# Altium footprint library Connector_Wire.PcbLib: 290 footprints (part 8 of 19)
Each footprint in its own frame and in the unit in brackets; x right, y up, seen from the top. Pads: shape width x height; smd on the part's side, far side on the other; paste and mask are expansions set on the pad; w line width, h text height; cw(c..) or ccw(c..) is an arc to the next point about the centre after c.
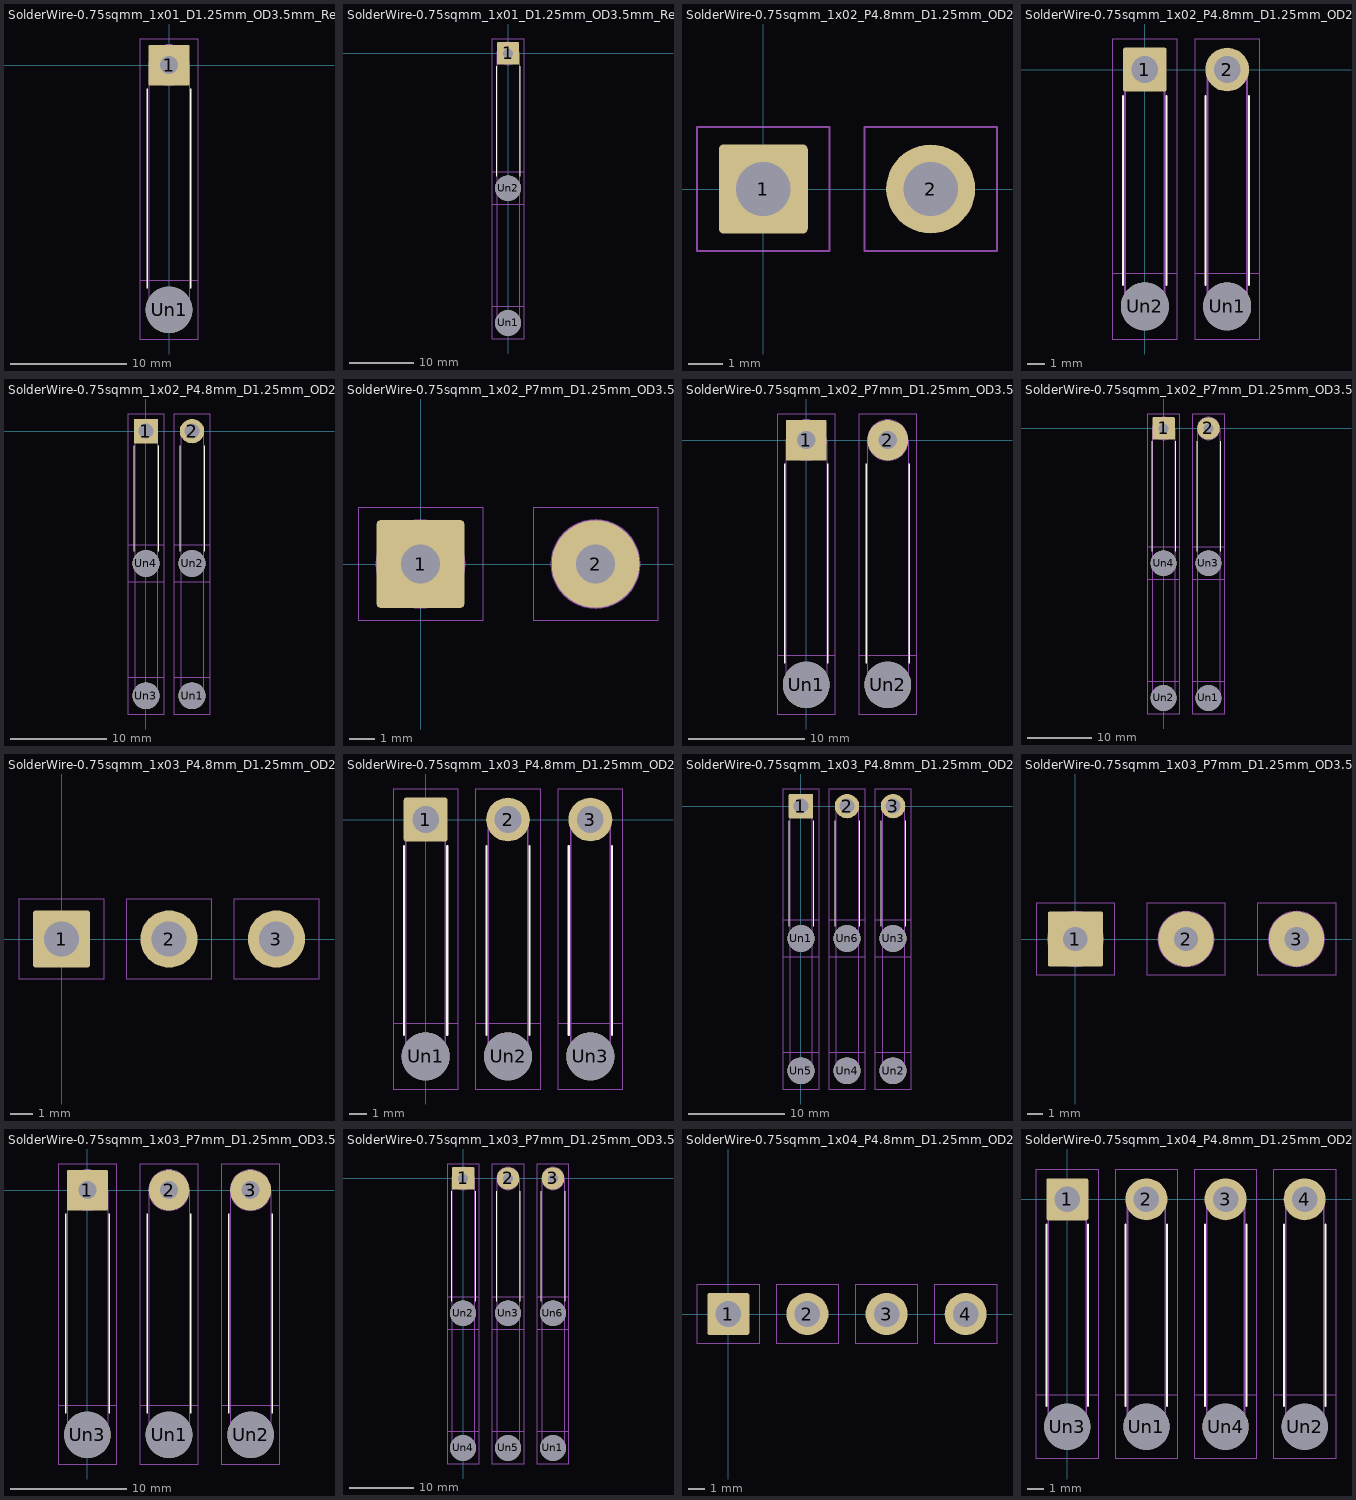
[diagram p7: the footprints below, top view; thin cyan lines are the x and y axes]

## SolderWire-0.75sqmm_1x01_D1.25mm_OD3.5mm_Relief [mm]
pads (2):
  rrect7% 3.5x3.5 hole 1.55: 1(0,0)
  round 4 hole 4: Un1(0,-21)
F.SilkS:
  lines w0.12: -1.86,-19.14 -1.86,-2.01 ; 1.86,-19.14 1.86,-2.01
B.CrtYd:
  lines w0.05: -2.5,-23.5 2.5,-23.5 2.5,-18.5 -2.5,-18.5 -2.5,-23.5
F.CrtYd:
  lines w0.05: -2.5,-23.5 2.5,-23.5 2.5,2.25 -2.5,2.25 -2.5,-23.5
F.Fab:
  circle w0.1: c0,-21 r1.75
  circle w0.1: c0,0 r1.75
  lines w0.1: -1.75,-21 -1.75,0 ; 1.75,-21 1.75,0
  text "'.Designator'" at 0.84,-14.547 h1

## SolderWire-0.75sqmm_1x01_D1.25mm_OD3.5mm_Relief2x [mm]
pads (3):
  rrect7% 3.5x3.5 hole 1.55: 1(0,0)
  round 4 hole 4: Un1(0,-42) Un2(0,-21)
F.SilkS:
  lines w0.12: -1.86,-19.14 -1.86,-2.01 ; 1.86,-19.14 1.86,-2.01
B.SilkS:
  lines w0.12: -1.86,-40.14 -1.86,-22.86 ; 1.86,-40.14 1.86,-22.86
B.CrtYd:
  lines w0.05: -2.5,-44.5 -2.5,-18.5 2.5,-18.5 2.5,-44.5 -2.5,-44.5
F.CrtYd:
  lines w0.05: -2.5,-44.5 2.5,-44.5 2.5,-39.5 -2.5,-39.5 -2.5,-44.5 ; -2.5,-23.5 -2.5,2.25 2.5,2.25 2.5,-23.5 -2.5,-23.5
B.Fab:
  circle w0.1: c0,-21 r1.75
  circle w0.1: c0,-42 r1.75
  lines w0.1: -1.75,-42 -1.75,-21 ; 1.75,-42 1.75,-21
F.Fab:
  circle w0.1: c0,-21 r1.75
  circle w0.1: c0,-42 r1.75
  circle w0.1: c0,0 r1.75
  lines w0.1: -1.75,-21 -1.75,0 ; 1.75,-21 1.75,0
  text "'.Designator'" at 0.84,-14.547 h1

## SolderWire-0.75sqmm_1x02_P4.8mm_D1.25mm_OD2.3mm [mm]
pads (2):
  rrect10% 2.55x2.55 hole 1.55: 1(0,0)
  round 2.55 hole 1.55: 2(4.8,0)
F.CrtYd:
  lines w0.05: -1.9,-1.78 -1.9,1.78 1.9,1.78 1.9,-1.78 -1.9,-1.78 ; 2.9,-1.78 2.9,1.78 6.7,1.78 6.7,-1.78 2.9,-1.78
F.Fab:
  circle w0.1: c0,0 r1.15
  circle w0.1: c4.8,0 r1.15
  text "'.Designator'" at 3.144,-3.598 h0.89

## SolderWire-0.75sqmm_1x02_P4.8mm_D1.25mm_OD2.3mm_Relief [mm]
pads (4):
  rrect10% 2.55x2.55 hole 1.55: 1(0,0)
  round 2.55 hole 1.55: 2(4.8,0)
  round 2.8 hole 2.8: Un1(4.8,-13.8) Un2(0,-13.8)
F.SilkS:
  lines w0.12: -1.26,-12.54 -1.26,-1.535 ; 1.26,-12.54 1.26,-1.535 ; 3.54,-12.54 3.54,-1.535 ; 6.06,-12.54 6.06,-1.535
B.CrtYd:
  lines w0.05: -1.9,-15.7 -1.9,-11.9 1.9,-11.9 1.9,-15.7 -1.9,-15.7 ; 2.9,-15.7 6.7,-15.7 6.7,-11.9 2.9,-11.9 2.9,-15.7
F.CrtYd:
  lines w0.05: -1.9,-15.7 -1.9,1.78 1.9,1.78 1.9,-15.7 -1.9,-15.7 ; 2.9,-15.7 6.7,-15.7 6.7,1.78 2.9,1.78 2.9,-15.7
F.Fab:
  circle w0.1: c4.8,0 r1.15
  circle w0.1: c0,-13.8 r1.15
  circle w0.1: c0,0 r1.15
  circle w0.1: c4.8,-13.8 r1.15
  lines w0.1: -1.15,-13.8 -1.15,0 ; 1.15,-13.8 1.15,0 ; 3.65,-13.8 3.65,0 ; 5.95,-13.8 5.95,0
  text "'.Designator'" at 3.24,-10.947 h1

## SolderWire-0.75sqmm_1x02_P4.8mm_D1.25mm_OD2.3mm_Relief2x [mm]
pads (6):
  rrect10% 2.55x2.55 hole 1.55: 1(0,0)
  round 2.55 hole 1.55: 2(4.8,0)
  round 2.8 hole 2.8: Un1(4.8,-27.6) Un2(4.8,-13.8) Un3(0,-27.6) Un4(0,-13.8)
F.SilkS:
  lines w0.12: -1.26,-12.54 -1.26,-1.535 ; 1.26,-12.54 1.26,-1.535 ; 3.54,-12.54 3.54,-1.535 ; 6.06,-12.54 6.06,-1.535
B.SilkS:
  lines w0.12: -1.26,-26.34 -1.26,-15.06 ; 1.26,-26.34 1.26,-15.06 ; 3.54,-26.34 3.54,-15.06 ; 6.06,-26.34 6.06,-15.06
B.CrtYd:
  lines w0.05: -1.9,-29.5 -1.9,-11.9 1.9,-11.9 1.9,-29.5 -1.9,-29.5 ; 2.9,-29.5 6.7,-29.5 6.7,-11.9 2.9,-11.9 2.9,-29.5
F.CrtYd:
  lines w0.05: -1.9,-29.5 -1.9,-25.7 1.9,-25.7 1.9,-29.5 -1.9,-29.5 ; -1.9,-15.7 -1.9,1.78 1.9,1.78 1.9,-15.7 -1.9,-15.7 ; 2.9,-29.5 2.9,-25.7 6.7,-25.7 6.7,-29.5 2.9,-29.5 ; 2.9,-15.7 2.9,1.78 6.7,1.78 6.7,-15.7 2.9,-15.7
B.Fab:
  circle w0.1: c4.8,-13.8 r1.15
  circle w0.1: c0,-27.6 r1.15
  circle w0.1: c0,-13.8 r1.15
  circle w0.1: c4.8,-27.6 r1.15
  lines w0.1: -1.15,-27.6 -1.15,-13.8 ; 1.15,-27.6 1.15,-13.8 ; 3.65,-27.6 3.65,-13.8 ; 5.95,-27.6 5.95,-13.8
F.Fab:
  circle w0.1: c0,0 r1.15
  circle w0.1: c4.8,0 r1.15
  circle w0.1: c0,-27.6 r1.15
  circle w0.1: c0,-13.8 r1.15
  circle w0.1: c4.8,-27.6 r1.15
  circle w0.1: c4.8,-13.8 r1.15
  lines w0.1: -1.15,-13.8 -1.15,0 ; 1.15,-13.8 1.15,0 ; 3.65,-13.8 3.65,0 ; 5.95,-13.8 5.95,0
  text "'.Designator'" at 3.24,-10.947 h1

## SolderWire-0.75sqmm_1x02_P7mm_D1.25mm_OD3.5mm [mm]
pads (2):
  rrect7% 3.5x3.5 hole 1.55: 1(0,0)
  round 3.5 hole 1.55: 2(7,0)
F.CrtYd:
  lines w0.05: -2.5,-2.25 2.5,-2.25 2.5,2.25 -2.5,2.25 -2.5,-2.25 ; 4.5,-2.25 4.5,2.25 9.5,2.25 9.5,-2.25 4.5,-2.25
F.Fab:
  circle w0.1: c0,0 r1.75
  circle w0.1: c7,0 r1.75
  text "'.Designator'" at 4.34,-4.047 h1

## SolderWire-0.75sqmm_1x02_P7mm_D1.25mm_OD3.5mm_Relief [mm]
pads (4):
  rrect7% 3.5x3.5 hole 1.55: 1(0,0)
  round 3.5 hole 1.55: 2(7,0)
  round 4 hole 4: Un1(0,-21) Un2(7,-21)
F.SilkS:
  lines w0.12: -1.86,-19.14 -1.86,-2.01 ; 1.86,-19.14 1.86,-2.01 ; 5.14,-19.14 5.14,-2.01 ; 8.86,-19.14 8.86,-2.01
B.CrtYd:
  lines w0.05: -2.5,-23.5 -2.5,-18.5 2.5,-18.5 2.5,-23.5 -2.5,-23.5 ; 4.5,-23.5 4.5,-18.5 9.5,-18.5 9.5,-23.5 4.5,-23.5
F.CrtYd:
  lines w0.05: -2.5,-23.5 -2.5,2.25 2.5,2.25 2.5,-23.5 -2.5,-23.5 ; 4.5,-23.5 9.5,-23.5 9.5,2.25 4.5,2.25 4.5,-23.5
F.Fab:
  circle w0.1: c7,-21 r1.75
  circle w0.1: c7,0 r1.75
  circle w0.1: c0,0 r1.75
  circle w0.1: c0,-21 r1.75
  lines w0.1: -1.75,-21 -1.75,0 ; 1.75,-21 1.75,0 ; 5.25,-21 5.25,0 ; 8.75,-21 8.75,0
  text "'.Designator'" at 4.34,-14.547 h1

## SolderWire-0.75sqmm_1x02_P7mm_D1.25mm_OD3.5mm_Relief2x [mm]
pads (6):
  rrect7% 3.5x3.5 hole 1.55: 1(0,0)
  round 3.5 hole 1.55: 2(7,0)
  round 4 hole 4: Un1(7,-42) Un2(0,-42) Un3(7,-21) Un4(0,-21)
F.SilkS:
  lines w0.12: -1.86,-19.14 -1.86,-2.01 ; 1.86,-19.14 1.86,-2.01 ; 5.14,-19.14 5.14,-2.01 ; 8.86,-19.14 8.86,-2.01
B.SilkS:
  lines w0.12: -1.86,-40.14 -1.86,-22.86 ; 1.86,-40.14 1.86,-22.86 ; 5.14,-40.14 5.14,-22.86 ; 8.86,-40.14 8.86,-22.86
B.CrtYd:
  lines w0.05: -2.5,-44.5 -2.5,-18.5 2.5,-18.5 2.5,-44.5 -2.5,-44.5 ; 4.5,-44.5 9.5,-44.5 9.5,-18.5 4.5,-18.5 4.5,-44.5
F.CrtYd:
  lines w0.05: -2.5,-44.5 -2.5,-39.5 2.5,-39.5 2.5,-44.5 -2.5,-44.5 ; -2.5,-23.5 2.5,-23.5 2.5,2.25 -2.5,2.25 -2.5,-23.5 ; 4.5,-44.5 4.5,-39.5 9.5,-39.5 9.5,-44.5 4.5,-44.5 ; 4.5,-23.5 9.5,-23.5 9.5,2.25 4.5,2.25 4.5,-23.5
B.Fab:
  circle w0.1: c0,-42 r1.75
  circle w0.1: c7,-42 r1.75
  circle w0.1: c7,-21 r1.75
  circle w0.1: c0,-21 r1.75
  lines w0.1: -1.75,-42 -1.75,-21 ; 1.75,-42 1.75,-21 ; 5.25,-42 5.25,-21 ; 8.75,-42 8.75,-21
F.Fab:
  circle w0.1: c0,0 r1.75
  circle w0.1: c7,-21 r1.75
  circle w0.1: c7,0 r1.75
  circle w0.1: c7,-42 r1.75
  circle w0.1: c0,-21 r1.75
  circle w0.1: c0,-42 r1.75
  lines w0.1: -1.75,-21 -1.75,0 ; 1.75,-21 1.75,0 ; 5.25,-21 5.25,0 ; 8.75,-21 8.75,0
  text "'.Designator'" at 4.34,-14.547 h1

## SolderWire-0.75sqmm_1x03_P4.8mm_D1.25mm_OD2.3mm [mm]
pads (3):
  rrect10% 2.55x2.55 hole 1.55: 1(0,0)
  round 2.55 hole 1.55: 2(4.8,0) 3(9.6,0)
F.CrtYd:
  lines w0.05: -1.9,-1.78 -1.9,1.78 1.9,1.78 1.9,-1.78 -1.9,-1.78 ; 2.9,-1.78 2.9,1.78 6.7,1.78 6.7,-1.78 2.9,-1.78 ; 7.7,-1.78 11.5,-1.78 11.5,1.78 7.7,1.78 7.7,-1.78
F.Fab:
  circle w0.1: c0,0 r1.15
  circle w0.1: c4.8,0 r1.15
  circle w0.1: c9.6,0 r1.15
  text "'.Designator'" at 2.45,-0.49 h0.58

## SolderWire-0.75sqmm_1x03_P4.8mm_D1.25mm_OD2.3mm_Relief [mm]
pads (6):
  rrect10% 2.55x2.55 hole 1.55: 1(0,0)
  round 2.55 hole 1.55: 2(4.8,0) 3(9.6,0)
  round 2.8 hole 2.8: Un1(0,-13.8) Un2(4.8,-13.8) Un3(9.6,-13.8)
F.SilkS:
  lines w0.12: -1.26,-12.54 -1.26,-1.535 ; 1.26,-12.54 1.26,-1.535 ; 3.54,-12.54 3.54,-1.535 ; 6.06,-12.54 6.06,-1.535 ; 8.34,-12.54 8.34,-1.535 ; 10.86,-12.54 10.86,-1.535
B.CrtYd:
  lines w0.05: -1.9,-15.7 1.9,-15.7 1.9,-11.9 -1.9,-11.9 -1.9,-15.7 ; 2.9,-15.7 2.9,-11.9 6.7,-11.9 6.7,-15.7 2.9,-15.7 ; 7.7,-15.7 11.5,-15.7 11.5,-11.9 7.7,-11.9 7.7,-15.7
F.CrtYd:
  lines w0.05: -1.9,-15.7 -1.9,1.78 1.9,1.78 1.9,-15.7 -1.9,-15.7 ; 2.9,-15.7 6.7,-15.7 6.7,1.78 2.9,1.78 2.9,-15.7 ; 7.7,-15.7 7.7,1.78 11.5,1.78 11.5,-15.7 7.7,-15.7
F.Fab:
  circle w0.1: c0,-13.8 r1.15
  circle w0.1: c0,0 r1.15
  circle w0.1: c9.6,-13.8 r1.15
  circle w0.1: c4.8,0 r1.15
  circle w0.1: c9.6,0 r1.15
  circle w0.1: c4.8,-13.8 r1.15
  lines w0.1: -1.15,-13.8 -1.15,0 ; 1.15,-13.8 1.15,0 ; 3.65,-13.8 3.65,0 ; 5.95,-13.8 5.95,0 ; 8.45,-13.8 8.45,0 ; 10.75,-13.8 10.75,0
  text "'.Designator'" at 5.64,-10.947 h1

## SolderWire-0.75sqmm_1x03_P4.8mm_D1.25mm_OD2.3mm_Relief2x [mm]
pads (9):
  rrect10% 2.55x2.55 hole 1.55: 1(0,0)
  round 2.55 hole 1.55: 2(4.8,0) 3(9.6,0)
  round 2.8 hole 2.8: Un1(0,-13.8) Un2(9.6,-27.6) Un3(9.6,-13.8) Un4(4.8,-27.6) Un5(0,-27.6) Un6(4.8,-13.8)
F.SilkS:
  lines w0.12: -1.26,-12.54 -1.26,-1.535 ; 1.26,-12.54 1.26,-1.535 ; 3.54,-12.54 3.54,-1.535 ; 6.06,-12.54 6.06,-1.535 ; 8.34,-12.54 8.34,-1.535 ; 10.86,-12.54 10.86,-1.535
B.SilkS:
  lines w0.12: -1.26,-26.34 -1.26,-15.06 ; 1.26,-26.34 1.26,-15.06 ; 3.54,-26.34 3.54,-15.06 ; 6.06,-26.34 6.06,-15.06 ; 8.34,-26.34 8.34,-15.06 ; 10.86,-26.34 10.86,-15.06
B.CrtYd:
  lines w0.05: -1.9,-29.5 -1.9,-11.9 1.9,-11.9 1.9,-29.5 -1.9,-29.5 ; 2.9,-29.5 6.7,-29.5 6.7,-11.9 2.9,-11.9 2.9,-29.5 ; 7.7,-29.5 11.5,-29.5 11.5,-11.9 7.7,-11.9 7.7,-29.5
F.CrtYd:
  lines w0.05: -1.9,-29.5 1.9,-29.5 1.9,-25.7 -1.9,-25.7 -1.9,-29.5 ; -1.9,-15.7 1.9,-15.7 1.9,1.78 -1.9,1.78 -1.9,-15.7 ; 2.9,-29.5 6.7,-29.5 6.7,-25.7 2.9,-25.7 2.9,-29.5 ; 2.9,-15.7 6.7,-15.7 6.7,1.78 2.9,1.78 2.9,-15.7 ; 7.7,-29.5 7.7,-25.7 11.5,-25.7 11.5,-29.5 7.7,-29.5 ; 7.7,-15.7 7.7,1.78 11.5,1.78 11.5,-15.7 7.7,-15.7
B.Fab:
  circle w0.1: c0,-13.8 r1.15
  circle w0.1: c9.6,-27.6 r1.15
  circle w0.1: c0,-27.6 r1.15
  circle w0.1: c4.8,-13.8 r1.15
  circle w0.1: c4.8,-27.6 r1.15
  circle w0.1: c9.6,-13.8 r1.15
  lines w0.1: -1.15,-27.6 -1.15,-13.8 ; 1.15,-27.6 1.15,-13.8 ; 3.65,-27.6 3.65,-13.8 ; 5.95,-27.6 5.95,-13.8 ; 8.45,-27.6 8.45,-13.8 ; 10.75,-27.6 10.75,-13.8
F.Fab:
  circle w0.1: c9.6,-27.6 r1.15
  circle w0.1: c9.6,0 r1.15
  circle w0.1: c0,0 r1.15
  circle w0.1: c4.8,0 r1.15
  circle w0.1: c4.8,-13.8 r1.15
  circle w0.1: c0,-13.8 r1.15
  circle w0.1: c4.8,-27.6 r1.15
  circle w0.1: c0,-27.6 r1.15
  circle w0.1: c9.6,-13.8 r1.15
  lines w0.1: -1.15,-13.8 -1.15,0 ; 1.15,-13.8 1.15,0 ; 3.65,-13.8 3.65,0 ; 5.95,-13.8 5.95,0 ; 8.45,-13.8 8.45,0 ; 10.75,-13.8 10.75,0
  text "'.Designator'" at 5.64,-10.947 h1

## SolderWire-0.75sqmm_1x03_P7mm_D1.25mm_OD3.5mm [mm]
pads (3):
  rrect7% 3.5x3.5 hole 1.55: 1(0,0)
  round 3.5 hole 1.55: 2(7,0) 3(14,0)
F.CrtYd:
  lines w0.05: -2.5,-2.25 -2.5,2.25 2.5,2.25 2.5,-2.25 -2.5,-2.25 ; 4.5,-2.25 4.5,2.25 9.5,2.25 9.5,-2.25 4.5,-2.25 ; 11.5,-2.25 16.5,-2.25 16.5,2.25 11.5,2.25 11.5,-2.25
F.Fab:
  circle w0.1: c7,0 r1.75
  circle w0.1: c0,0 r1.75
  circle w0.1: c14,0 r1.75
  text "'.Designator'" at 3.441,-0.737 h0.88

## SolderWire-0.75sqmm_1x03_P7mm_D1.25mm_OD3.5mm_Relief [mm]
pads (6):
  rrect7% 3.5x3.5 hole 1.55: 1(0,0)
  round 3.5 hole 1.55: 2(7,0) 3(14,0)
  round 4 hole 4: Un1(7,-21) Un2(14,-21) Un3(0,-21)
F.SilkS:
  lines w0.12: -1.86,-19.14 -1.86,-2.01 ; 1.86,-19.14 1.86,-2.01 ; 5.14,-19.14 5.14,-2.01 ; 8.86,-19.14 8.86,-2.01 ; 12.14,-19.14 12.14,-2.01 ; 15.86,-19.14 15.86,-2.01
B.CrtYd:
  lines w0.05: -2.5,-23.5 -2.5,-18.5 2.5,-18.5 2.5,-23.5 -2.5,-23.5 ; 4.5,-23.5 4.5,-18.5 9.5,-18.5 9.5,-23.5 4.5,-23.5 ; 11.5,-23.5 11.5,-18.5 16.5,-18.5 16.5,-23.5 11.5,-23.5
F.CrtYd:
  lines w0.05: -2.5,-23.5 2.5,-23.5 2.5,2.25 -2.5,2.25 -2.5,-23.5 ; 4.5,-23.5 9.5,-23.5 9.5,2.25 4.5,2.25 4.5,-23.5 ; 11.5,-23.5 11.5,2.25 16.5,2.25 16.5,-23.5 11.5,-23.5
F.Fab:
  circle w0.1: c0,-21 r1.75
  circle w0.1: c0,0 r1.75
  circle w0.1: c7,0 r1.75
  circle w0.1: c7,-21 r1.75
  circle w0.1: c14,0 r1.75
  circle w0.1: c14,-21 r1.75
  lines w0.1: -1.75,-21 -1.75,0 ; 1.75,-21 1.75,0 ; 5.25,-21 5.25,0 ; 8.75,-21 8.75,0 ; 12.25,-21 12.25,0 ; 15.75,-21 15.75,0
  text "'.Designator'" at 7.84,-14.547 h1

## SolderWire-0.75sqmm_1x03_P7mm_D1.25mm_OD3.5mm_Relief2x [mm]
pads (9):
  rrect7% 3.5x3.5 hole 1.55: 1(0,0)
  round 3.5 hole 1.55: 2(7,0) 3(14,0)
  round 4 hole 4: Un1(14,-42) Un2(0,-21) Un3(7,-21) Un4(0,-42) Un5(7,-42) Un6(14,-21)
F.SilkS:
  lines w0.12: -1.86,-19.14 -1.86,-2.01 ; 1.86,-19.14 1.86,-2.01 ; 5.14,-19.14 5.14,-2.01 ; 8.86,-19.14 8.86,-2.01 ; 12.14,-19.14 12.14,-2.01 ; 15.86,-19.14 15.86,-2.01
B.SilkS:
  lines w0.12: -1.86,-40.14 -1.86,-22.86 ; 1.86,-40.14 1.86,-22.86 ; 5.14,-40.14 5.14,-22.86 ; 8.86,-40.14 8.86,-22.86 ; 12.14,-40.14 12.14,-22.86 ; 15.86,-40.14 15.86,-22.86
B.CrtYd:
  lines w0.05: -2.5,-44.5 2.5,-44.5 2.5,-18.5 -2.5,-18.5 -2.5,-44.5 ; 4.5,-44.5 9.5,-44.5 9.5,-18.5 4.5,-18.5 4.5,-44.5 ; 11.5,-44.5 11.5,-18.5 16.5,-18.5 16.5,-44.5 11.5,-44.5
F.CrtYd:
  lines w0.05: -2.5,-44.5 2.5,-44.5 2.5,-39.5 -2.5,-39.5 -2.5,-44.5 ; -2.5,-23.5 2.5,-23.5 2.5,2.25 -2.5,2.25 -2.5,-23.5 ; 4.5,-44.5 4.5,-39.5 9.5,-39.5 9.5,-44.5 4.5,-44.5 ; 4.5,-23.5 4.5,2.25 9.5,2.25 9.5,-23.5 4.5,-23.5 ; 11.5,-44.5 16.5,-44.5 16.5,-39.5 11.5,-39.5 11.5,-44.5 ; 11.5,-23.5 11.5,2.25 16.5,2.25 16.5,-23.5 11.5,-23.5
B.Fab:
  circle w0.1: c0,-42 r1.75
  circle w0.1: c0,-21 r1.75
  circle w0.1: c7,-42 r1.75
  circle w0.1: c7,-21 r1.75
  circle w0.1: c14,-21 r1.75
  circle w0.1: c14,-42 r1.75
  lines w0.1: -1.75,-42 -1.75,-21 ; 1.75,-42 1.75,-21 ; 5.25,-42 5.25,-21 ; 8.75,-42 8.75,-21 ; 12.25,-42 12.25,-21 ; 15.75,-42 15.75,-21
F.Fab:
  circle w0.1: c7,-42 r1.75
  circle w0.1: c0,0 r1.75
  circle w0.1: c7,-21 r1.75
  circle w0.1: c14,-21 r1.75
  circle w0.1: c14,0 r1.75
  circle w0.1: c7,0 r1.75
  circle w0.1: c0,-42 r1.75
  circle w0.1: c0,-21 r1.75
  circle w0.1: c14,-42 r1.75
  lines w0.1: -1.75,-21 -1.75,0 ; 1.75,-21 1.75,0 ; 5.25,-21 5.25,0 ; 8.75,-21 8.75,0 ; 12.25,-21 12.25,0 ; 15.75,-21 15.75,0
  text "'.Designator'" at 7.84,-14.547 h1

## SolderWire-0.75sqmm_1x04_P4.8mm_D1.25mm_OD2.3mm [mm]
pads (4):
  rrect10% 2.55x2.55 hole 1.55: 1(0,0)
  round 2.55 hole 1.55: 2(4.8,0) 3(9.6,0) 4(14.4,0)
F.CrtYd:
  lines w0.05: -1.9,-1.78 1.9,-1.78 1.9,1.78 -1.9,1.78 -1.9,-1.78 ; 2.9,-1.78 2.9,1.78 6.7,1.78 6.7,-1.78 2.9,-1.78 ; 7.7,-1.78 7.7,1.78 11.5,1.78 11.5,-1.78 7.7,-1.78 ; 12.5,-1.78 12.5,1.78 16.3,1.78 16.3,-1.78 12.5,-1.78
F.Fab:
  circle w0.1: c0,0 r1.15
  circle w0.1: c9.6,0 r1.15
  circle w0.1: c4.8,0 r1.15
  circle w0.1: c14.4,0 r1.15
  text "'.Designator'" at 7.944,-3.598 h0.89

## SolderWire-0.75sqmm_1x04_P4.8mm_D1.25mm_OD2.3mm_Relief [mm]
pads (8):
  rrect10% 2.55x2.55 hole 1.55: 1(0,0)
  round 2.55 hole 1.55: 2(4.8,0) 3(9.6,0) 4(14.4,0)
  round 2.8 hole 2.8: Un1(4.8,-13.8) Un2(14.4,-13.8) Un3(0,-13.8) Un4(9.6,-13.8)
F.SilkS:
  lines w0.12: -1.26,-12.54 -1.26,-1.535 ; 1.26,-12.54 1.26,-1.535 ; 3.54,-12.54 3.54,-1.535 ; 6.06,-12.54 6.06,-1.535 ; 8.34,-12.54 8.34,-1.535 ; 10.86,-12.54 10.86,-1.535 ; 13.14,-12.54 13.14,-1.535 ; 15.66,-12.54 15.66,-1.535
B.CrtYd:
  lines w0.05: -1.9,-15.7 1.9,-15.7 1.9,-11.9 -1.9,-11.9 -1.9,-15.7 ; 2.9,-15.7 2.9,-11.9 6.7,-11.9 6.7,-15.7 2.9,-15.7 ; 7.7,-15.7 11.5,-15.7 11.5,-11.9 7.7,-11.9 7.7,-15.7 ; 12.5,-15.7 16.3,-15.7 16.3,-11.9 12.5,-11.9 12.5,-15.7
F.CrtYd:
  lines w0.05: -1.9,-15.7 1.9,-15.7 1.9,1.78 -1.9,1.78 -1.9,-15.7 ; 2.9,-15.7 6.7,-15.7 6.7,1.78 2.9,1.78 2.9,-15.7 ; 7.7,-15.7 7.7,1.78 11.5,1.78 11.5,-15.7 7.7,-15.7 ; 12.5,-15.7 16.3,-15.7 16.3,1.78 12.5,1.78 12.5,-15.7
F.Fab:
  circle w0.1: c0,-13.8 r1.15
  circle w0.1: c4.8,0 r1.15
  circle w0.1: c14.4,0 r1.15
  circle w0.1: c9.6,-13.8 r1.15
  circle w0.1: c9.6,0 r1.15
  circle w0.1: c14.4,-13.8 r1.15
  circle w0.1: c0,0 r1.15
  circle w0.1: c4.8,-13.8 r1.15
  lines w0.1: -1.15,-13.8 -1.15,0 ; 1.15,-13.8 1.15,0 ; 3.65,-13.8 3.65,0 ; 5.95,-13.8 5.95,0 ; 8.45,-13.8 8.45,0 ; 10.75,-13.8 10.75,0 ; 13.25,-13.8 13.25,0 ; 15.55,-13.8 15.55,0
  text "'.Designator'" at 8.04,-10.947 h1